# EAGLE library part PICAXE-08M2 (library apex)
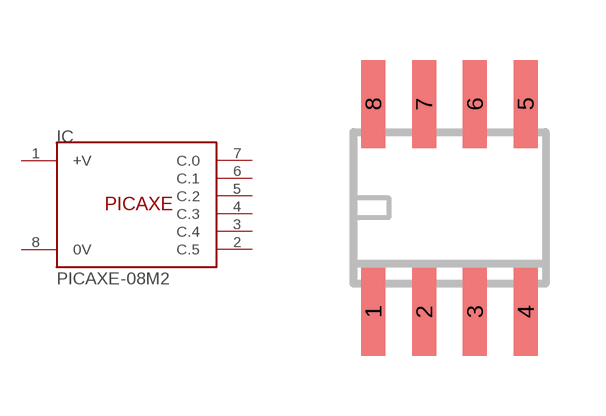
[diagram p15: symbol with the pads of SOIC8; footprint SOIC8]

Designator prefix IC

## PICAXE-08M2  [SOIC8]
1  +V  pwr
2  C.5
3  C.4
4  C.3
5  C.2
6  C.1
7  C.0
8  0V  pwr

## Footprint SOIC8 (pad centres in mm)
Small Outline IC
smd 0.6 x 2.2: 1 -1.905,-2.6; 2 -0.635,-2.6; 3 0.635,-2.6; 4 1.905,-2.6; 5 1.905,2.6; 6 0.635,2.6; 7 -0.635,2.6; 8 -1.905,2.6